# Altium integrated library WE-VE_rev16a.intlib: 34 symbols
Pins are listed as number, name and electrical type; pins without a type are passive.

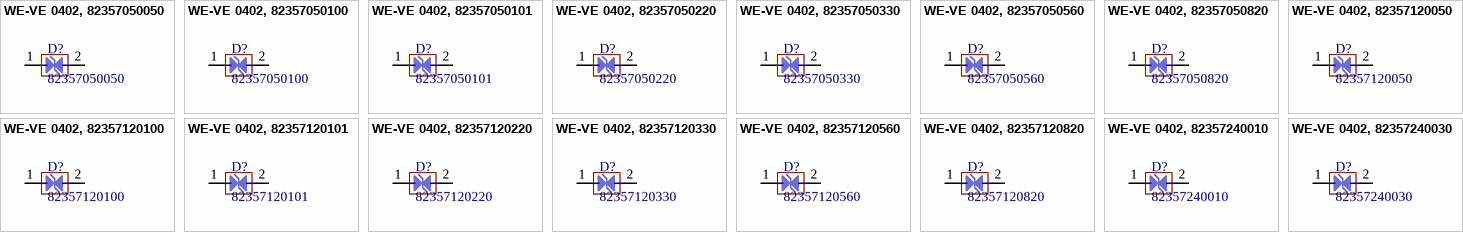
[diagram p0: symbols WE-VE 0402, 82357050050 to WE-VE 0402, 82357240030]

## WE-VE 0402, 82357050050
designator D?, comment 82357050050
WE-VE ESD Suppressor, 0402, VDC=5V; Manufacturer: Wurth Elektronik; VDC: 5V; PartNo: 82357050050; ComponentLink1Description: Manufacturer; ComponentLink1URL: http://www.we-online.de; Created by: BJ.Chen; Created Date: Jan 2016; ComponentLink2Description: Datasheet; ComponentLink2URL: http://katalog.we-online.de/pbs/datasheet/82357050050.pdf
footprint WE-VE_0402
pins: 1 I/O1, 2 I/O2

## WE-VE 0402, 82357050100
designator D?, comment 82357050100
WE-VE ESD Suppressor, 0402, VDC=5V; Manufacturer: Wurth Elektronik; VDC: 5V; PartNo: 82357050100; ComponentLink1Description: Manufacturer; ComponentLink1URL: http://www.we-online.de; Created by: BJ.Chen; Created Date: Jan 2016; ComponentLink2Description: Datasheet; ComponentLink2URL: http://katalog.we-online.de/pbs/datasheet/82357050100.pdf
footprint WE-VE_0402
pins: 1 I/O1, 2 I/O2

## WE-VE 0402, 82357050101
designator D?, comment 82357050101
WE-VE ESD Suppressor, 0402, VDC=5V; Manufacturer: Wurth Elektronik; VDC: 5V; PartNo: 82357050101; ComponentLink1Description: Manufacturer; ComponentLink1URL: http://www.we-online.de; Created by: BJ.Chen; Created Date: Jan 2016; ComponentLink2Description: Datasheet; ComponentLink2URL: http://katalog.we-online.de/pbs/datasheet/82357050101.pdf
footprint WE-VE_0402
pins: 1 I/O1, 2 I/O2

## WE-VE 0402, 82357050220
designator D?, comment 82357050220
WE-VE ESD Suppressor, 0402, VDC=5V; Manufacturer: Wurth Elektronik; VDC: 5V; PartNo: 82357050220; ComponentLink1Description: Manufacturer; ComponentLink1URL: http://www.we-online.de; Created by: BJ.Chen; Created Date: Jan 2016; ComponentLink2Description: Datasheet; ComponentLink2URL: http://katalog.we-online.de/pbs/datasheet/82357050220.pdf
footprint WE-VE_0402
pins: 1 I/O1, 2 I/O2

## WE-VE 0402, 82357050330
designator D?, comment 82357050330
WE-VE ESD Suppressor, 0402, VDC=5V; Manufacturer: Wurth Elektronik; VDC: 5V; PartNo: 82357050330; ComponentLink1Description: Manufacturer; ComponentLink1URL: http://www.we-online.de; Created by: BJ.Chen; Created Date: Jan 2016; ComponentLink2Description: Datasheet; ComponentLink2URL: http://katalog.we-online.de/pbs/datasheet/82357050330.pdf
footprint WE-VE_0402
pins: 1 I/O1, 2 I/O2

## WE-VE 0402, 82357050560
designator D?, comment 82357050560
WE-VE ESD Suppressor, 0402, VDC=5V; Manufacturer: Wurth Elektronik; VDC: 5V; PartNo: 82357050560; ComponentLink1Description: Manufacturer; ComponentLink1URL: http://www.we-online.de; Created by: BJ.Chen; Created Date: Jan 2016; ComponentLink2Description: Datasheet; ComponentLink2URL: http://katalog.we-online.de/pbs/datasheet/82357050560.pdf
footprint WE-VE_0402
pins: 1 I/O1, 2 I/O2

## WE-VE 0402, 82357050820
designator D?, comment 82357050820
WE-VE ESD Suppressor, 0402, VDC=5V; Manufacturer: Wurth Elektronik; VDC: 5V; PartNo: 82357050820; ComponentLink1Description: Manufacturer; ComponentLink1URL: http://www.we-online.de; Created by: BJ.Chen; Created Date: Jan 2016; ComponentLink2Description: Datasheet; ComponentLink2URL: http://katalog.we-online.de/pbs/datasheet/82357050820.pdf
footprint WE-VE_0402
pins: 1 I/O1, 2 I/O2

## WE-VE 0402, 82357120050
designator D?, comment 82357120050
WE-VE ESD Suppressor, 0402, VDC=12V; Manufacturer: Wurth Elektronik; VDC: 12V; PartNo: 82357120050; ComponentLink1Description: Manufacturer; ComponentLink1URL: http://www.we-online.de; Created by: BJ.Chen; Created Date: Jan 2016; ComponentLink2Description: Datasheet; ComponentLink2URL: http://katalog.we-online.de/pbs/datasheet/82357120050.pdf
footprint WE-VE_0402
pins: 1 I/O1, 2 I/O2

## WE-VE 0402, 82357120100
designator D?, comment 82357120100
WE-VE ESD Suppressor, 0402, VDC=12V; Manufacturer: Wurth Elektronik; VDC: 12V; PartNo: 82357120100; ComponentLink1Description: Manufacturer; ComponentLink1URL: http://www.we-online.de; Created by: BJ.Chen; Created Date: Jan 2016; ComponentLink2Description: Datasheet; ComponentLink2URL: http://katalog.we-online.de/pbs/datasheet/82357120100.pdf
footprint WE-VE_0402
pins: 1 I/O1, 2 I/O2

## WE-VE 0402, 82357120101
designator D?, comment 82357120101
WE-VE ESD Suppressor, 0402, VDC=12V; Manufacturer: Wurth Elektronik; VDC: 12V; PartNo: 82357120101; ComponentLink1Description: Manufacturer; ComponentLink1URL: http://www.we-online.de; Created by: BJ.Chen; Created Date: Jan 2016; ComponentLink2Description: Datasheet; ComponentLink2URL: http://katalog.we-online.de/pbs/datasheet/82357120101.pdf
footprint WE-VE_0402
pins: 1 I/O1, 2 I/O2

## WE-VE 0402, 82357120220
designator D?, comment 82357120220
WE-VE ESD Suppressor, 0402, VDC=12V; Manufacturer: Wurth Elektronik; VDC: 12V; PartNo: 82357120220; ComponentLink1Description: Manufacturer; ComponentLink1URL: http://www.we-online.de; Created by: BJ.Chen; Created Date: Jan 2016; ComponentLink2Description: Datasheet; ComponentLink2URL: http://katalog.we-online.de/pbs/datasheet/82357120220.pdf
footprint WE-VE_0402
pins: 1 I/O1, 2 I/O2

## WE-VE 0402, 82357120330
designator D?, comment 82357120330
WE-VE ESD Suppressor, 0402, VDC=12V; Manufacturer: Wurth Elektronik; VDC: 12V; PartNo: 82357120330; ComponentLink1Description: Manufacturer; ComponentLink1URL: http://www.we-online.de; Created by: BJ.Chen; Created Date: Jan 2016; ComponentLink2Description: Datasheet; ComponentLink2URL: http://katalog.we-online.de/pbs/datasheet/82357120330.pdf
footprint WE-VE_0402
pins: 1 I/O1, 2 I/O2

## WE-VE 0402, 82357120560
designator D?, comment 82357120560
WE-VE ESD Suppressor, 0402, VDC=12V; Manufacturer: Wurth Elektronik; VDC: 12V; PartNo: 82357120560; ComponentLink1Description: Manufacturer; ComponentLink1URL: http://www.we-online.de; Created by: BJ.Chen; Created Date: Jan 2016; ComponentLink2Description: Datasheet; ComponentLink2URL: http://katalog.we-online.de/pbs/datasheet/82357120560.pdf
footprint WE-VE_0402
pins: 1 I/O1, 2 I/O2

## WE-VE 0402, 82357120820
designator D?, comment 82357120820
WE-VE ESD Suppressor, 0402, VDC=12V; Manufacturer: Wurth Elektronik; VDC: 12V; PartNo: 82357120820; ComponentLink1Description: Manufacturer; ComponentLink1URL: http://www.we-online.de; Created by: BJ.Chen; Created Date: Jan 2016; ComponentLink2Description: Datasheet; ComponentLink2URL: http://katalog.we-online.de/pbs/datasheet/82357120820.pdf
footprint WE-VE_0402
pins: 1 I/O1, 2 I/O2

## WE-VE 0402, 82357240010
designator D?, comment 82357240010
WE-VE ESD Suppressor, 0402, VDC=24V; Manufacturer: Wurth Elektronik; VDC: 24V; PartNo: 82357240010; ComponentLink1Description: Manufacturer; ComponentLink1URL: http://www.we-online.de; Created by: BJ.Chen; Created Date: Jan 2016; ComponentLink2Description: Datasheet; ComponentLink2URL: http://katalog.we-online.de/pbs/datasheet/82357240010.pdf
footprint WE-VE_0402
pins: 1 I/O1, 2 I/O2

## WE-VE 0402, 82357240030
designator D?, comment 82357240030
WE-VE ESD Suppressor, 0402, VDC=24V; Manufacturer: Wurth Elektronik; VDC: 24V; PartNo: 82357240030; ComponentLink1Description: Manufacturer; ComponentLink1URL: http://www.we-online.de; Created by: BJ.Chen; Created Date: Jan 2016; ComponentLink2Description: Datasheet; ComponentLink2URL: http://katalog.we-online.de/pbs/datasheet/82357240030.pdf
footprint WE-VE_0402
pins: 1 I/O1, 2 I/O2


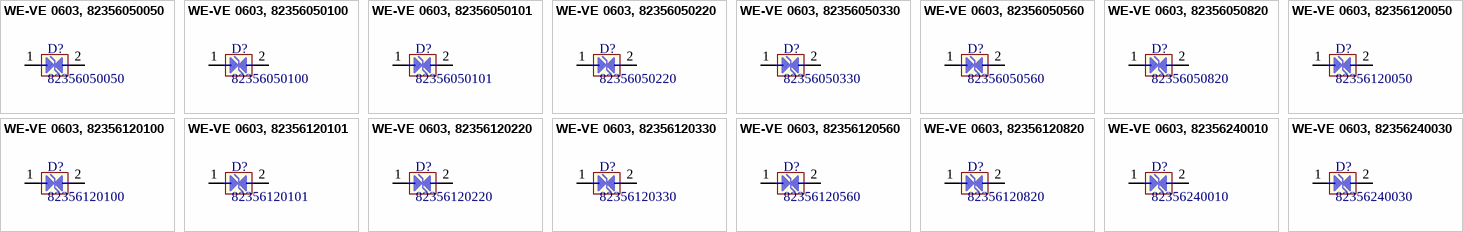
[diagram p1: symbols WE-VE 0603, 82356050050 to WE-VE 0603, 82356240030]

## WE-VE 0603, 82356050050
designator D?, comment 82356050050
WE-VE ESD Suppressor, 0603, VDC=5V; Manufacturer: Wurth Elektronik; VDC: 5V; PartNo: 82356050050; ComponentLink1Description: Manufacturer; ComponentLink1URL: http://www.we-online.de; Created by: BJ.Chen; Created Date: Jan 2016; ComponentLink2Description: Datasheet; ComponentLink2URL: http://katalog.we-online.de/pbs/datasheet/82356050050.pdf
footprint WE-VE_0603
pins: 1 I/O1, 2 I/O2

## WE-VE 0603, 82356050100
designator D?, comment 82356050100
WE-VE ESD Suppressor, 0603, VDC=5V; Manufacturer: Wurth Elektronik; VDC: 5V; PartNo: 82356050100; ComponentLink1Description: Manufacturer; ComponentLink1URL: http://www.we-online.de; Created by: BJ.Chen; Created Date: Jan 2016; ComponentLink2Description: Datasheet; ComponentLink2URL: http://katalog.we-online.de/pbs/datasheet/82356050100.pdf
footprint WE-VE_0603
pins: 1 I/O1, 2 I/O2

## WE-VE 0603, 82356050101
designator D?, comment 82356050101
WE-VE ESD Suppressor, 0603, VDC=5V; Manufacturer: Wurth Elektronik; VDC: 5V; PartNo: 82356050101; ComponentLink1Description: Manufacturer; ComponentLink1URL: http://www.we-online.de; Created by: BJ.Chen; Created Date: Jan 2016; ComponentLink2Description: Datasheet; ComponentLink2URL: http://katalog.we-online.de/pbs/datasheet/82356050101.pdf
footprint WE-VE_0603
pins: 1 I/O1, 2 I/O2

## WE-VE 0603, 82356050220
designator D?, comment 82356050220
WE-VE ESD Suppressor, 0603, VDC=5V; Manufacturer: Wurth Elektronik; VDC: 5V; PartNo: 82356050220; ComponentLink1Description: Manufacturer; ComponentLink1URL: http://www.we-online.de; Created by: BJ.Chen; Created Date: Jan 2016; ComponentLink2Description: Datasheet; ComponentLink2URL: http://katalog.we-online.de/pbs/datasheet/82356050220.pdf
footprint WE-VE_0603
pins: 1 I/O1, 2 I/O2

## WE-VE 0603, 82356050330
designator D?, comment 82356050330
WE-VE ESD Suppressor, 0603, VDC=5V; Manufacturer: Wurth Elektronik; VDC: 5V; PartNo: 82356050330; ComponentLink1Description: Manufacturer; ComponentLink1URL: http://www.we-online.de; Created by: BJ.Chen; Created Date: Jan 2016; ComponentLink2Description: Datasheet; ComponentLink2URL: http://katalog.we-online.de/pbs/datasheet/82356050330.pdf
footprint WE-VE_0603
pins: 1 I/O1, 2 I/O2

## WE-VE 0603, 82356050560
designator D?, comment 82356050560
WE-VE ESD Suppressor, 0603, VDC=5V; Manufacturer: Wurth Elektronik; VDC: 5V; PartNo: 82356050560; ComponentLink1Description: Manufacturer; ComponentLink1URL: http://www.we-online.de; Created by: BJ.Chen; Created Date: Jan 2016; ComponentLink2Description: Datasheet; ComponentLink2URL: http://katalog.we-online.de/pbs/datasheet/82356050560.pdf
footprint WE-VE_0603
pins: 1 I/O1, 2 I/O2

## WE-VE 0603, 82356050820
designator D?, comment 82356050820
WE-VE ESD Suppressor, 0603, VDC=5V; Manufacturer: Wurth Elektronik; VDC: 5V; PartNo: 82356050820; ComponentLink1Description: Manufacturer; ComponentLink1URL: http://www.we-online.de; Created by: BJ.Chen; Created Date: Jan 2016; ComponentLink2Description: Datasheet; ComponentLink2URL: http://katalog.we-online.de/pbs/datasheet/82356050820.pdf
footprint WE-VE_0603
pins: 1 I/O1, 2 I/O2

## WE-VE 0603, 82356120050
designator D?, comment 82356120050
WE-VE ESD Suppressor, 0603, VDC=12V; Manufacturer: Wurth Elektronik; VDC: 12V; PartNo: 82356120050; ComponentLink1Description: Manufacturer; ComponentLink1URL: http://www.we-online.de; Created by: BJ.Chen; Created Date: Jan 2016; ComponentLink2Description: Datasheet; ComponentLink2URL: http://katalog.we-online.de/pbs/datasheet/82356120050.pdf
footprint WE-VE_0603
pins: 1 I/O1, 2 I/O2

## WE-VE 0603, 82356120100
designator D?, comment 82356120100
WE-VE ESD Suppressor, 0603, VDC=12V; Manufacturer: Wurth Elektronik; VDC: 12V; PartNo: 82356120100; ComponentLink1Description: Manufacturer; ComponentLink1URL: http://www.we-online.de; Created by: BJ.Chen; Created Date: Jan 2016; ComponentLink2Description: Datasheet; ComponentLink2URL: http://katalog.we-online.de/pbs/datasheet/82356120100.pdf
footprint WE-VE_0603
pins: 1 I/O1, 2 I/O2

## WE-VE 0603, 82356120101
designator D?, comment 82356120101
WE-VE ESD Suppressor, 0603, VDC=12V; Manufacturer: Wurth Elektronik; VDC: 12V; PartNo: 82356120101; ComponentLink1Description: Manufacturer; ComponentLink1URL: http://www.we-online.de; Created by: BJ.Chen; Created Date: Jan 2016; ComponentLink2Description: Datasheet; ComponentLink2URL: http://katalog.we-online.de/pbs/datasheet/82356120101.pdf
footprint WE-VE_0603
pins: 1 I/O1, 2 I/O2

## WE-VE 0603, 82356120220
designator D?, comment 82356120220
WE-VE ESD Suppressor, 0603, VDC=12V; Manufacturer: Wurth Elektronik; VDC: 12V; PartNo: 82356120220; ComponentLink1Description: Manufacturer; ComponentLink1URL: http://www.we-online.de; Created by: BJ.Chen; Created Date: Jan 2016; ComponentLink2Description: Datasheet; ComponentLink2URL: http://katalog.we-online.de/pbs/datasheet/82356120220.pdf
footprint WE-VE_0603
pins: 1 I/O1, 2 I/O2

## WE-VE 0603, 82356120330
designator D?, comment 82356120330
WE-VE ESD Suppressor, 0603, VDC=12V; Manufacturer: Wurth Elektronik; VDC: 12V; PartNo: 82356120330; ComponentLink1Description: Manufacturer; ComponentLink1URL: http://www.we-online.de; Created by: BJ.Chen; Created Date: Jan 2016; ComponentLink2Description: Datasheet; ComponentLink2URL: http://katalog.we-online.de/pbs/datasheet/82356120330.pdf
footprint WE-VE_0603
pins: 1 I/O1, 2 I/O2

## WE-VE 0603, 82356120560
designator D?, comment 82356120560
WE-VE ESD Suppressor, 0603, VDC=12V; Manufacturer: Wurth Elektronik; VDC: 12V; PartNo: 82356120560; ComponentLink1Description: Manufacturer; ComponentLink1URL: http://www.we-online.de; Created by: BJ.Chen; Created Date: Jan 2016; ComponentLink2Description: Datasheet; ComponentLink2URL: http://katalog.we-online.de/pbs/datasheet/82356120560.pdf
footprint WE-VE_0603
pins: 1 I/O1, 2 I/O2

## WE-VE 0603, 82356120820
designator D?, comment 82356120820
WE-VE ESD Suppressor, 0603, VDC=12V; Manufacturer: Wurth Elektronik; VDC: 12V; PartNo: 82356120820; ComponentLink1Description: Manufacturer; ComponentLink1URL: http://www.we-online.de; Created by: BJ.Chen; Created Date: Jan 2016; ComponentLink2Description: Datasheet; ComponentLink2URL: http://katalog.we-online.de/pbs/datasheet/82356120820.pdf
footprint WE-VE_0603
pins: 1 I/O1, 2 I/O2

## WE-VE 0603, 82356240010
designator D?, comment 82356240010
WE-VE ESD Suppressor, 0603, VDC=24V; Manufacturer: Wurth Elektronik; VDC: 24V; PartNo: 82356240010; ComponentLink1Description: Manufacturer; ComponentLink1URL: http://www.we-online.de; Created by: BJ.Chen; Created Date: Jan 2016; ComponentLink2Description: Datasheet; ComponentLink2URL: http://katalog.we-online.de/pbs/datasheet/82356240010.pdf
footprint WE-VE_0603
pins: 1 I/O1, 2 I/O2

## WE-VE 0603, 82356240030
designator D?, comment 82356240030
WE-VE ESD Suppressor, 0603, VDC=24V; Manufacturer: Wurth Elektronik; VDC: 24V; PartNo: 82356240030; ComponentLink1Description: Manufacturer; ComponentLink1URL: http://www.we-online.de; Created by: BJ.Chen; Created Date: Jan 2016; ComponentLink2Description: Datasheet; ComponentLink2URL: http://katalog.we-online.de/pbs/datasheet/82356240030.pdf
footprint WE-VE_0603
pins: 1 I/O1, 2 I/O2


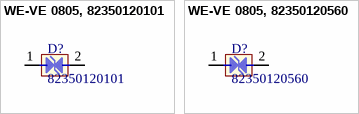
[diagram p2: symbols WE-VE 0805, 82350120101 to WE-VE 0805, 82350120560]

## WE-VE 0805, 82350120101
designator D?, comment 82350120101
WE-VE ESD Suppressor, 0805, VDC=12V; Manufacturer: Wurth Elektronik; VDC: 12V; PartNo: 82350120101; ComponentLink1Description: Manufacturer; ComponentLink1URL: http://www.we-online.de; Created by: BJ.Chen; Created Date: Jan 2016; ComponentLink2Description: Datasheet; ComponentLink2URL: http://katalog.we-online.de/pbs/datasheet/82350120101.pdf
footprint WE-VE_0805
pins: 1 I/O1, 2 I/O2

## WE-VE 0805, 82350120560
designator D?, comment 82350120560
WE-VE ESD Suppressor, 0805, VDC=12V; Manufacturer: Wurth Elektronik; VDC: 12V; PartNo: 82350120560; ComponentLink1Description: Manufacturer; ComponentLink1URL: http://www.we-online.de; Created by: BJ.Chen; Created Date: Jan 2016; ComponentLink2Description: Datasheet; ComponentLink2URL: http://katalog.we-online.de/pbs/datasheet/82350120560.pdf
footprint WE-VE_0805
pins: 1 I/O1, 2 I/O2